# EAGLE library part 2X8_LOW_PROFILE_JUMPER (library pchvd)
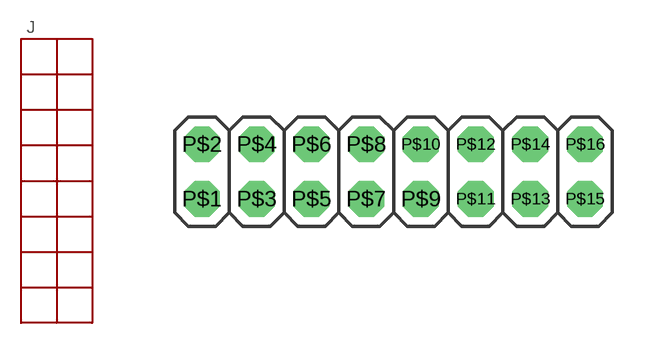
[diagram p4: symbol with the pads of 2X8_LOW_PROFILE_JUMPER_MATRIX; footprint 2X8_LOW_PROFILE_JUMPER_MATRIX]

Designator prefix J

## 2X8_LOW_PROFILE_JUMPER (DIGIKEY: NRPN082PAEN-RC)  [2X8_LOW_PROFILE_JUMPER_MATRIX]
P$1  P$1
P$2  P$2
P$3  P$3
P$4  P$4
P$5  P$5
P$6  P$6
P$7  P$7
P$8  P$8
P$9  P$9
P$10  P$10
P$11  P$11
P$12  P$12
P$13  P$13
P$14  P$14
P$15  P$15
P$16  P$16

## Footprint 2X8_LOW_PROFILE_JUMPER_MATRIX (pad centres in mm)
drill 0.8 pad 1.27 octagon: P$1 -7,-1; P$2 -7,1; P$3 -5,-1; P$4 -5,1; P$5 -3,-1; P$6 -3,1; P$7 -1,-1; P$8 -1,1; P$9 1,-1; P$10 1,1; P$11 3,-1; P$12 3,1; P$13 5,-1; P$14 5,1; P$15 7,-1; P$16 7,1